# EAGLE library part BNO055 (library KwanSystems)
Sensor hub Integrated gyro, accelerometer, magnetometer, and microcontroller to perform sensor fusion and return absolute orientation and linear acceleration
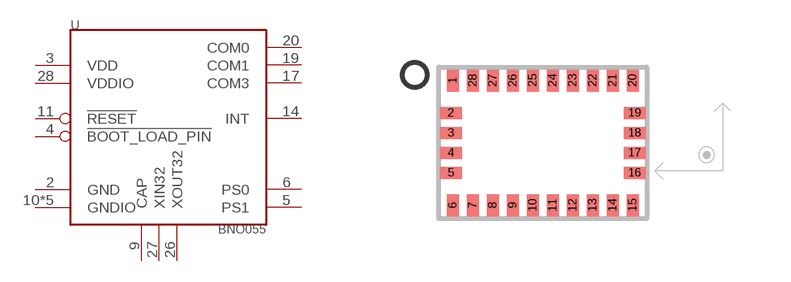
[diagram p50: symbol with the pads of BNO055; footprint BNO055]

Designator prefix -

## BNO055  [BNO055]
2  GND
3  VDD
4  !BOOT_LOAD_PIN
5  PS1
6  PS0
9  CAP
10  GNDIO
11  !RESET
14  INT
15  GNDIO
16  GNDIO
17  COM3
18  GNDIO
19  COM1
20  COM0
25  GNDIO
26  XOUT32
27  XIN32
28  VDDIO

## Footprint BNO055 (pad centres in mm)
smd 0.3 x 0.55: 1 -2.25,1.562; 6 -2.25,-1.562; 7 -1.75,-1.562; 8 -1.25,-1.562; 9 -0.75,-1.562; 10 -0.25,-1.562; 11 0.25,-1.562; 12 0.75,-1.562; 13 1.25,-1.562; 14 1.75,-1.562; 15 2.25,-1.562; 20 2.25,1.562; 21 1.75,1.562; 22 1.25,1.562; 23 0.75,1.562; 24 0.25,1.562; 25 -0.25,1.562; 26 -0.75,1.562; 27 -1.25,1.562; 28 -1.75,1.562
smd 0.55 x 0.3: 2 -2.3,0.75; 3 -2.3,0.25; 4 -2.3,-0.25; 5 -2.3,-0.75; 16 2.3,-0.75; 17 2.3,-0.25; 18 2.3,0.25; 19 2.3,0.75